# Altium footprint library Capacitors.PcbLib: 81 footprints (part 6 of 6)
Each footprint in its own frame and in the unit in brackets; x right, y up, seen from the top. Pads: shape width x height; smd on the part's side, far side on the other; paste and mask are expansions set on the pad; w line width, h text height; cw(c..) or ccw(c..) is an arc to the next point about the centre after c.
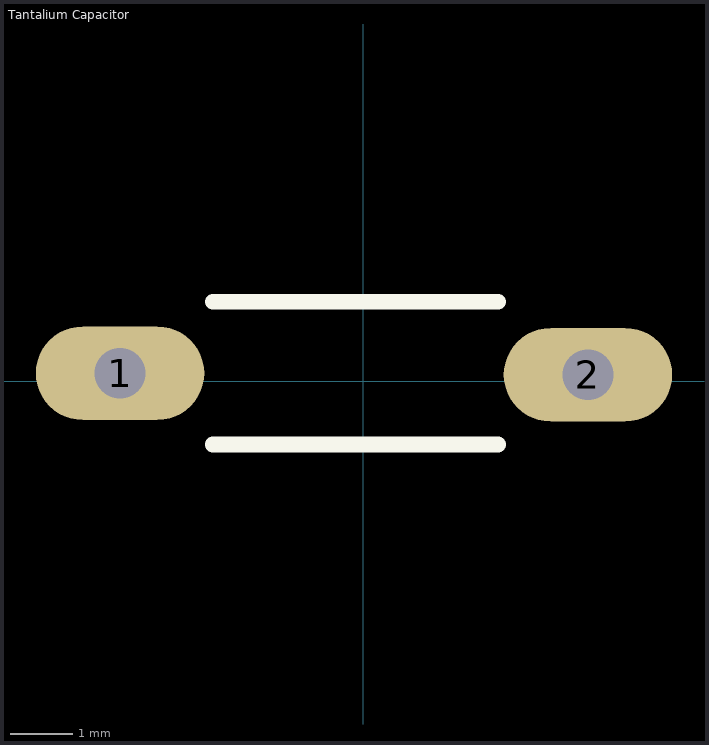
[diagram p5: the footprint, top view; thin cyan lines are the x and y axes]

## Tantalium Capacitor [mm] "Capacitor de tantalio tipo lenteja"
pads (2):
  oval 2.7x1.5 hole 0.813: 1(-3.9,0.125) 2(3.6,0.1)
Top Overlay:
  lines w0.254: -2.413,-1.016 2.159,-1.016 ; -2.413,1.27 2.159,1.27
3D body "Tantalio.STEP": height 9.13, standoff -1.05, extent -4.15,-1.05 3.851,1.339